# Altium footprint library XG8V-0331.PcbLib: 1 footprints
Each footprint in its own frame and in the unit in brackets; x right, y up, seen from the top. Pads: shape width x height; smd on the part's side, far side on the other; paste and mask are expansions set on the pad; w line width, h text height; cw(c..) or ccw(c..) is an arc to the next point about the centre after c.
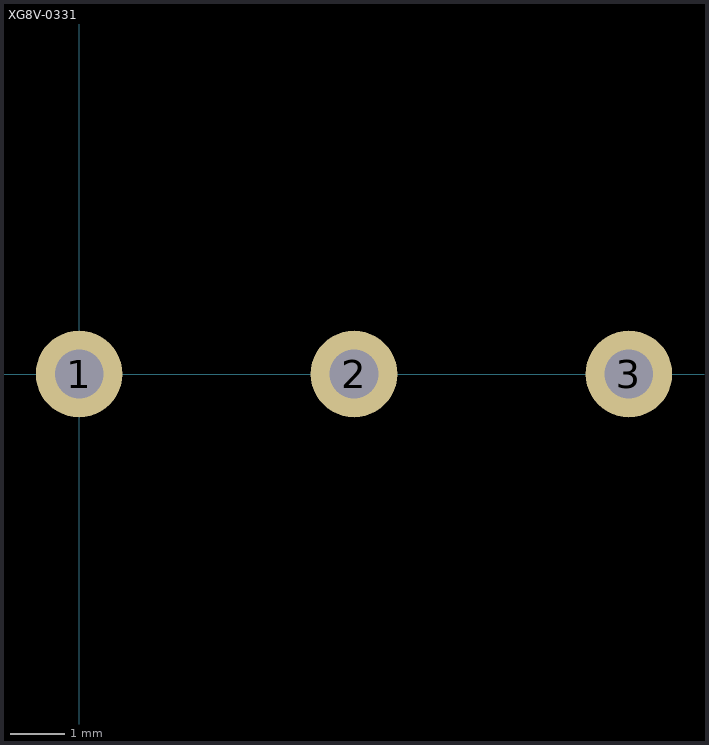
[diagram p0: the footprint, top view; thin cyan lines are the x and y axes]

## XG8V-0331 [mm] "3 pin header"
pads (3):
  round 1.6 hole 0.9: 1(0,0) 2(5.08,0) 3(10.16,0)